# Altium schematic symbol library 74LS04.SchLib: 1 symbol
Pins are listed as number, name and electrical type; pins without a type are passive.

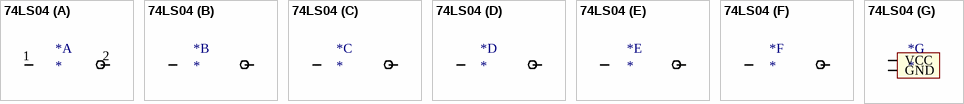
[diagram p0: symbol 74LS04]

## 74LS04
designator *
footprint DIP14
part A pins: 1 A In (in), 2 A Out (out)
part B pins: 3 B In (in), 4 B Out (out)
part C pins: 5 C In (in), 6 C Out (out)
part D pins: 8 D Out, 9 D In
part E pins: 10 E Out (out), 11 E In (in)
part F pins: 12 F Out (out), 13 F In (in)
part G pins: 7 GND (power), 14 VCC (power)